# Altium integrated library NSC MiscPower.IntLib: 1417 symbols (part 6 of 39)
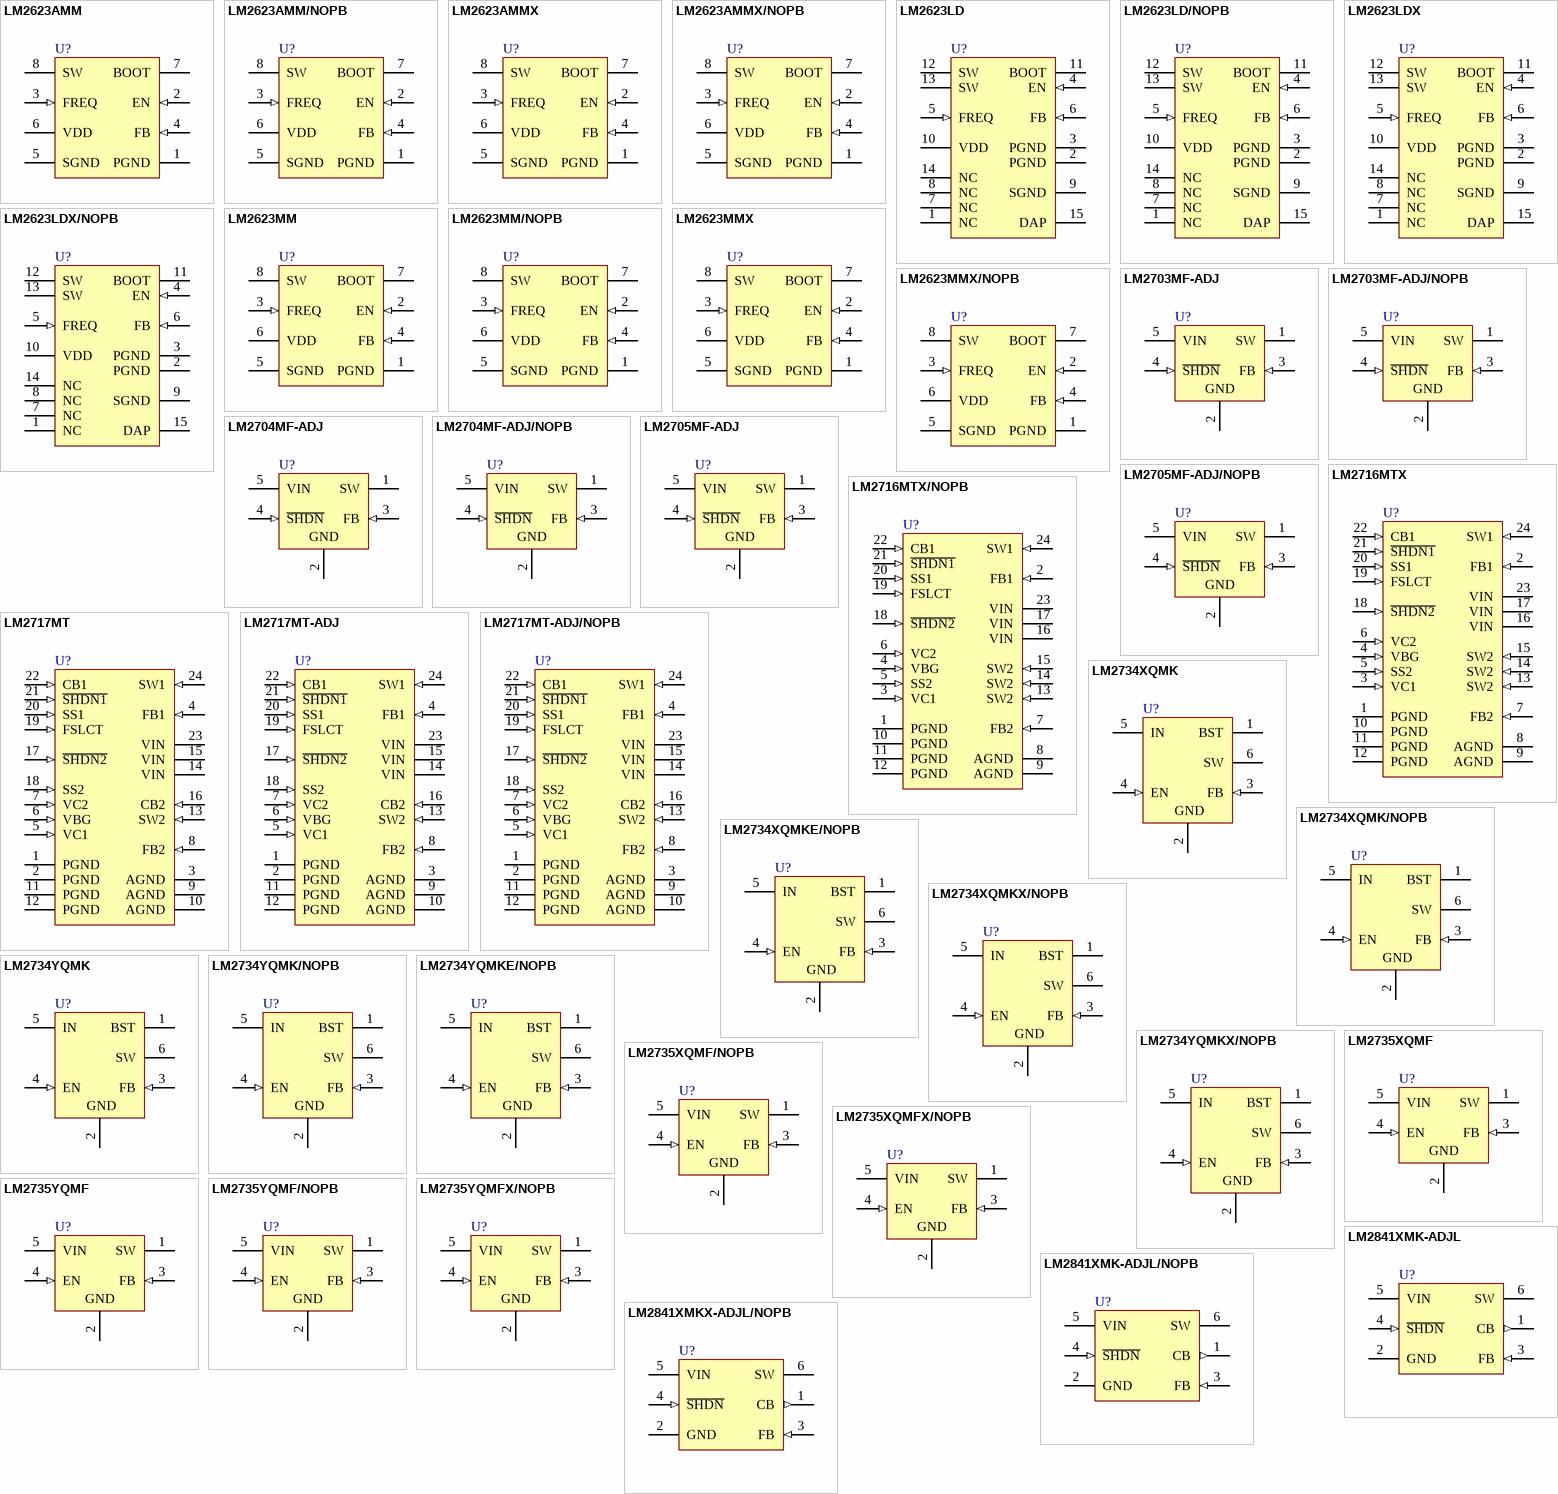
[diagram p56: symbols LM2623AMM to LM2841XMKX-ADJL/NOPB]

## LM2717MT-ADJ/NOPB
designator U?
Dual Step-Down DC/DC Converter, 24-pin TSSOP, Pb-Free; PartNumber: LM2717MT-ADJ/NOPB; Manufacturer: National Semiconductor; PackageTopMarking: NSUZXYTTE#*LM2717*MT-ADJ; PowerWise: N; CompType: MiscPower; Published: 1-Mar-2010; DatasheetVersion: Mar-2008; PackageVersion: revE, Mar-2003; PackageReference: MTC24; Publisher: Altium Limited; PackageDescription: Molded TSSOP, Jedec, 7.8 x 4.4 x 0.9mm Body, 24 Lead, 0.65mm Pitch; Supplier 1: Digi-Key; Supplier Part Number 1: LM2717MT-ADJ-ND; Supplier 2: Farnell; Supplier Part Number 2: 1654569; RoHS: Y; PinCount: 24; Code_JEDEC: MO-153-AD; ComponentLink1Description: LM2717 Datasheet; ComponentLink1URL: http://www.national.com/ds/LM/LM2717-ADJ.pdf; ComponentLink2Description: LM2717 Web Page; ComponentLink2URL: http://www.national.com/pf/LM/LM2717.html; ComponentLink3Description: MTC24 Package Page; ComponentLink3URL: http://www.national.com/packaging/folders/mtc24.html
footprint MTC24_N (TSOP, 24-Leads, Body 7.8x4.4mm, Pitch 0.65mm, IPC Medium Density)
footprint MTC24_L (TSOP, 24-Leads, Body 7.8x4.4mm, Pitch 0.65mm, IPC High Density)
footprint MTC24_M (TSOP, 24-Leads, Body 7.8x4.4mm, Pitch 0.65mm, IPC Low Density)
pins: 1 PGND (power) "Power ground. AGND and PGND pins must be connected together directly at the part.", 2 PGND (power) "Power ground. AGND and PGND pins must be connected together directly at the part.", 3 AGND (power) "Analog ground. AGND and PGND pins must be connected together directly at the part.", 4 FB1 (in) "Fixed buck output voltage feedback input.", 5 VC1 (in) "Fixed buck compensation network connection. Connected to the output of the voltage error amplifier.", 6 VBG (in) "Bandgap connection.", 7 VC2 (in) "Adjustable buck compensation network connection.", 8 FB2 (in) "Adjustable buck output voltage feedback input.", 9 AGND (power) "Analog ground. AGND and PGND pins must be connected together directly at the part.", 10 AGND (power) "Analog ground. AGND and PGND pins must be connected together directly at the part.", 11 PGND (power) "Power ground. AGND and PGND pins must be connected together directly at the part.", 12 PGND (power) "Power ground. AGND and PGND pins must be connected together directly at the part.", 13 SW2 (in) "Adjustable buck power switch input.", 14 VIN (power) "Analog power input.", 15 VIN (power) "Analog power input.", 16 CB2 (in) "Adjustable buck converter bootstrap capacitor connection.", 17 ~{SHDN2} (in) "Shutdown pin for adjustable buck converter. Active low.", 18 SS2 (in) "Adjustable buck soft start pin.", 19 FSLCT (in) "Switching frequency select input.", 20 SS1 (in) "Fixed buck soft start pin.", 21 ~{SHDN1} (in) "Shutdown pin for fixed buck converter. Active low.", 22 CB1 (in) "Fixed buck converter bootstrap capacitor connection.", 23 VIN (power) "Analog power input.", 24 SW1 (in) "Fixed buck power switch input. Switch connected between VIN pins and SW1 pin."

## LM2734XQMK
designator U?
1A Load Step-Down DC-DC Regulator, 6-pin Tiny SOT23; PartNumber: LM2734XQMK; Manufacturer: National Semiconductor; PackageTopMarking: SUKB*XTT; PowerWise: N; CompType: MiscPower; Published: 4-Dec-2008; DatasheetVersion: Apr-2009; PackageVersion: revE, Nov-2008; PackageReference: MK06A; Publisher: Altium Limited; PackageDescription: Molded TSOT, 2.97 x 1.65 x 0.87mm Body, 6 Lead, 0.95mm Pitch; Supplier 1: Farnell; Supplier Part Number 1: 1663027; RoHS: Y; PinCount: 6; Code_JEDEC: MO-193-AA; Code_IPC: SOT26A-6; ComponentLink1Description: LM2734 Datasheet; ComponentLink1URL: http://www.national.com/ds/LM/LM2734.pdf; ComponentLink2Description: LM2734 Web Page; ComponentLink2URL: http://www.national.com/pf/LM/LM2734.html; ComponentLink3Description: MK06A Package Page; ComponentLink3URL: http://www.national.com/packaging/folders/mk06a.html
footprint MK06A_N (SOT23, 6-Leads, Body 3.0x1.7mm, Pitch 0.95mm, Lead Span 2.9mm, IPC Medium Density)
footprint MK06A_L (SOT23, 6-Leads, Body 3.0x1.7mm, Pitch 0.95mm, Lead Span 2.9mm, IPC High Density)
footprint MK06A_M (SOT23, 6-Leads, Body 3.0x1.7mm, Pitch 0.95mm, Lead Span 2.9mm, IPC Low Density)
pins: 1 BST, 2 GND (power), 3 FB (in), 4 EN (in), 5 IN (power), 6 SW (power)

## LM2734XQMK/NOPB
designator U?
1A Load Step-Down DC-DC Regulator, 6-pin Tiny SOT23, Pb-Free; PartNumber: LM2734XQMK/NOPB; Manufacturer: National Semiconductor; PackageTopMarking: SUKB*XTT; PowerWise: N; CompType: MiscPower; Published: 1-Mar-2010; DatasheetVersion: Apr-2009; PackageVersion: revE, Nov-2008; PackageReference: MK06A; Publisher: Altium Limited; PackageDescription: Molded TSOT, 2.97 x 1.65 x 0.87mm Body, 6 Lead, 0.95mm Pitch; Supplier 1: Digi-Key; Supplier Part Number 1: LM2734XQMK-ND; RoHS: Y; PinCount: 6; Code_JEDEC: MO-193-AA; Code_IPC: SOT26A-6; ComponentLink1Description: LM2734 Datasheet; ComponentLink1URL: http://www.national.com/ds/LM/LM2734.pdf; ComponentLink2Description: LM2734 Web Page; ComponentLink2URL: http://www.national.com/pf/LM/LM2734.html; ComponentLink3Description: MK06A Package Page; ComponentLink3URL: http://www.national.com/packaging/folders/mk06a.html
footprint MK06A_N (SOT23, 6-Leads, Body 3.0x1.7mm, Pitch 0.95mm, Lead Span 2.9mm, IPC Medium Density)
footprint MK06A_L (SOT23, 6-Leads, Body 3.0x1.7mm, Pitch 0.95mm, Lead Span 2.9mm, IPC High Density)
footprint MK06A_M (SOT23, 6-Leads, Body 3.0x1.7mm, Pitch 0.95mm, Lead Span 2.9mm, IPC Low Density)
pins: 1 BST, 2 GND (power), 3 FB (in), 4 EN (in), 5 IN (power), 6 SW (power)

## LM2734XQMKE/NOPB
designator U?
1A Load Step-Down DC-DC Regulator, 6-pin Tiny SOT23, Pb-Free; PartNumber: LM2734XQMKE/NOPB; Manufacturer: National Semiconductor; PackageTopMarking: SUKB*XTT; PowerWise: N; CompType: MiscPower; Published: 1-Mar-2010; DatasheetVersion: Apr-2009; PackageVersion: revE, Nov-2008; PackageReference: MK06A; Publisher: Altium Limited; PackageDescription: Molded TSOT, 2.97 x 1.65 x 0.87mm Body, 6 Lead, 0.95mm Pitch; Supplier 1: Digi-Key; Supplier Part Number 1: LM2734XQMKETR-ND; Supplier 2: Digi-Key; Supplier Part Number 2: LM2734XQMKECT-ND; Supplier 3: Digi-Key; Supplier Part Number 3: LM2734XQMKEDKR-ND; RoHS: Y; PinCount: 6; Code_JEDEC: MO-193-AA; Code_IPC: SOT26A-6; ComponentLink1Description: LM2734 Datasheet; ComponentLink1URL: http://www.national.com/ds/LM/LM2734.pdf; ComponentLink2Description: LM2734 Web Page; ComponentLink2URL: http://www.national.com/pf/LM/LM2734.html; ComponentLink3Description: MK06A Package Page; ComponentLink3URL: http://www.national.com/packaging/folders/mk06a.html
footprint MK06A_N (SOT23, 6-Leads, Body 3.0x1.7mm, Pitch 0.95mm, Lead Span 2.9mm, IPC Medium Density)
footprint MK06A_L (SOT23, 6-Leads, Body 3.0x1.7mm, Pitch 0.95mm, Lead Span 2.9mm, IPC High Density)
footprint MK06A_M (SOT23, 6-Leads, Body 3.0x1.7mm, Pitch 0.95mm, Lead Span 2.9mm, IPC Low Density)
pins: 1 BST, 2 GND (power), 3 FB (in), 4 EN (in), 5 IN (power), 6 SW (power)

## LM2734XQMKX/NOPB
designator U?
1A Load Step-Down DC-DC Regulator, 6-pin Tiny SOT23, Pb-Free; PartNumber: LM2734XQMKX/NOPB; Manufacturer: National Semiconductor; PackageTopMarking: SUKB*XTT; PowerWise: N; CompType: MiscPower; Published: 1-Mar-2010; DatasheetVersion: Apr-2009; PackageVersion: revE, Nov-2008; PackageReference: MK06A; Publisher: Altium Limited; PackageDescription: Molded TSOT, 2.97 x 1.65 x 0.87mm Body, 6 Lead, 0.95mm Pitch; Supplier 1: Digi-Key; Supplier Part Number 1: LM2734XQMKX-ND; RoHS: Y; PinCount: 6; Code_JEDEC: MO-193-AA; Code_IPC: SOT26A-6; ComponentLink1Description: LM2734 Datasheet; ComponentLink1URL: http://www.national.com/ds/LM/LM2734.pdf; ComponentLink2Description: LM2734 Web Page; ComponentLink2URL: http://www.national.com/pf/LM/LM2734.html; ComponentLink3Description: MK06A Package Page; ComponentLink3URL: http://www.national.com/packaging/folders/mk06a.html
footprint MK06A_N (SOT23, 6-Leads, Body 3.0x1.7mm, Pitch 0.95mm, Lead Span 2.9mm, IPC Medium Density)
footprint MK06A_L (SOT23, 6-Leads, Body 3.0x1.7mm, Pitch 0.95mm, Lead Span 2.9mm, IPC High Density)
footprint MK06A_M (SOT23, 6-Leads, Body 3.0x1.7mm, Pitch 0.95mm, Lead Span 2.9mm, IPC Low Density)
pins: 1 BST, 2 GND (power), 3 FB (in), 4 EN (in), 5 IN (power), 6 SW (power)

## LM2734YQMK
designator U?
1A Load Step-Down DC-DC Regulator, 6-pin Tiny SOT23; PartNumber: LM2734YQMK; Manufacturer: National Semiconductor; PackageTopMarking: SVCB*XTT; PowerWise: N; CompType: MiscPower; Published: 4-Dec-2008; DatasheetVersion: Apr-2009; PackageVersion: revE, Nov-2008; PackageReference: MK06A; Publisher: Altium Limited; PackageDescription: Molded TSOT, 2.97 x 1.65 x 0.87mm Body, 6 Lead, 0.95mm Pitch; Supplier 1: Farnell; Supplier Part Number 1: 1663029; RoHS: Y; PinCount: 6; Code_JEDEC: MO-193-AA; Code_IPC: SOT26A-6; ComponentLink1Description: LM2734 Datasheet; ComponentLink1URL: http://www.national.com/ds/LM/LM2734.pdf; ComponentLink2Description: LM2734 Web Page; ComponentLink2URL: http://www.national.com/pf/LM/LM2734.html; ComponentLink3Description: MK06A Package Page; ComponentLink3URL: http://www.national.com/packaging/folders/mk06a.html
footprint MK06A_N (SOT23, 6-Leads, Body 3.0x1.7mm, Pitch 0.95mm, Lead Span 2.9mm, IPC Medium Density)
footprint MK06A_L (SOT23, 6-Leads, Body 3.0x1.7mm, Pitch 0.95mm, Lead Span 2.9mm, IPC High Density)
footprint MK06A_M (SOT23, 6-Leads, Body 3.0x1.7mm, Pitch 0.95mm, Lead Span 2.9mm, IPC Low Density)
pins: 1 BST, 2 GND (power), 3 FB (in), 4 EN (in), 5 IN (power), 6 SW (power)

## LM2734YQMK/NOPB
designator U?
1A Load Step-Down DC-DC Regulator, 6-pin Tiny SOT23, Pb-Free; PartNumber: LM2734YQMK/NOPB; Manufacturer: National Semiconductor; PackageTopMarking: SVCB*XTT; PowerWise: N; CompType: MiscPower; Published: 1-Mar-2010; DatasheetVersion: Apr-2009; PackageVersion: revE, Nov-2008; PackageReference: MK06A; Publisher: Altium Limited; PackageDescription: Molded TSOT, 2.97 x 1.65 x 0.87mm Body, 6 Lead, 0.95mm Pitch; Supplier 1: Digi-Key; Supplier Part Number 1: LM2734YQMK-ND; RoHS: Y; PinCount: 6; Code_JEDEC: MO-193-AA; Code_IPC: SOT26A-6; ComponentLink1Description: LM2734 Datasheet; ComponentLink1URL: http://www.national.com/ds/LM/LM2734.pdf; ComponentLink2Description: LM2734 Web Page; ComponentLink2URL: http://www.national.com/pf/LM/LM2734.html; ComponentLink3Description: MK06A Package Page; ComponentLink3URL: http://www.national.com/packaging/folders/mk06a.html
footprint MK06A_N (SOT23, 6-Leads, Body 3.0x1.7mm, Pitch 0.95mm, Lead Span 2.9mm, IPC Medium Density)
footprint MK06A_L (SOT23, 6-Leads, Body 3.0x1.7mm, Pitch 0.95mm, Lead Span 2.9mm, IPC High Density)
footprint MK06A_M (SOT23, 6-Leads, Body 3.0x1.7mm, Pitch 0.95mm, Lead Span 2.9mm, IPC Low Density)
pins: 1 BST, 2 GND (power), 3 FB (in), 4 EN (in), 5 IN (power), 6 SW (power)

## LM2734YQMKE/NOPB
designator U?
1A Load Step-Down DC-DC Regulator, 6-pin Tiny SOT23, Pb-Free; PartNumber: LM2734YQMKE/NOPB; Manufacturer: National Semiconductor; PackageTopMarking: SVCB*XTT; PowerWise: N; CompType: MiscPower; Published: 1-Mar-2010; DatasheetVersion: Apr-2009; PackageVersion: revE, Nov-2008; PackageReference: MK06A; Publisher: Altium Limited; PackageDescription: Molded TSOT, 2.97 x 1.65 x 0.87mm Body, 6 Lead, 0.95mm Pitch; Supplier 1: Digi-Key; Supplier Part Number 1: LM2734YQMKETR-ND; Supplier 2: Digi-Key; Supplier Part Number 2: LM2734YQMKECT-ND; Supplier 3: Digi-Key; Supplier Part Number 3: LM2734YQMKEDKR-ND; RoHS: Y; PinCount: 6; Code_JEDEC: MO-193-AA; Code_IPC: SOT26A-6; ComponentLink1Description: LM2734 Datasheet; ComponentLink1URL: http://www.national.com/ds/LM/LM2734.pdf; ComponentLink2Description: LM2734 Web Page; ComponentLink2URL: http://www.national.com/pf/LM/LM2734.html; ComponentLink3Description: MK06A Package Page; ComponentLink3URL: http://www.national.com/packaging/folders/mk06a.html
footprint MK06A_N (SOT23, 6-Leads, Body 3.0x1.7mm, Pitch 0.95mm, Lead Span 2.9mm, IPC Medium Density)
footprint MK06A_L (SOT23, 6-Leads, Body 3.0x1.7mm, Pitch 0.95mm, Lead Span 2.9mm, IPC High Density)
footprint MK06A_M (SOT23, 6-Leads, Body 3.0x1.7mm, Pitch 0.95mm, Lead Span 2.9mm, IPC Low Density)
pins: 1 BST, 2 GND (power), 3 FB (in), 4 EN (in), 5 IN (power), 6 SW (power)

## LM2734YQMKX/NOPB
designator U?
1A Load Step-Down DC-DC Regulator, 6-pin Tiny SOT23, Pb-Free; PartNumber: LM2734YQMKX/NOPB; Manufacturer: National Semiconductor; PackageTopMarking: SVCB*XTT; PowerWise: N; CompType: MiscPower; Published: 1-Mar-2010; DatasheetVersion: Apr-2009; PackageVersion: revE, Nov-2008; PackageReference: MK06A; Publisher: Altium Limited; PackageDescription: Molded TSOT, 2.97 x 1.65 x 0.87mm Body, 6 Lead, 0.95mm Pitch; Supplier 1: Digi-Key; Supplier Part Number 1: LM2734YQMKX-ND; RoHS: Y; PinCount: 6; Code_JEDEC: MO-193-AA; Code_IPC: SOT26A-6; ComponentLink1Description: LM2734 Datasheet; ComponentLink1URL: http://www.national.com/ds/LM/LM2734.pdf; ComponentLink2Description: LM2734 Web Page; ComponentLink2URL: http://www.national.com/pf/LM/LM2734.html; ComponentLink3Description: MK06A Package Page; ComponentLink3URL: http://www.national.com/packaging/folders/mk06a.html
footprint MK06A_N (SOT23, 6-Leads, Body 3.0x1.7mm, Pitch 0.95mm, Lead Span 2.9mm, IPC Medium Density)
footprint MK06A_L (SOT23, 6-Leads, Body 3.0x1.7mm, Pitch 0.95mm, Lead Span 2.9mm, IPC High Density)
footprint MK06A_M (SOT23, 6-Leads, Body 3.0x1.7mm, Pitch 0.95mm, Lead Span 2.9mm, IPC Low Density)
pins: 1 BST, 2 GND (power), 3 FB (in), 4 EN (in), 5 IN (power), 6 SW (power)

## LM2735XQMF
designator U?
520kHz/1.6MHz - Space-Efficient Boost and SEPIC DC-DC Regulator, 5-pin SOT-23; PartNumber: LM2735XQMF; Manufacturer: National Semiconductor; PackageTopMarking: SVDB*XTT; PowerWise: N; CompType: MiscPower; Published: 29-May-2009; DatasheetVersion: Feb-2009; PackageVersion: revD, Aug-2008; PackageReference: MF05A; Publisher: Altium Limited; PackageDescription: Molded SOT-23, .115 x .063 x .040 in Body, 5 Lead, .0375 in Pitch; Supplier 1: Farnell; Supplier Part Number 1: 1667425; RoHS: Y; PinCount: 5; ComponentLink1Description: LM2735 Datasheet; ComponentLink1URL: http://www.national.com/ds/LM/LM2735.pdf; ComponentLink2Description: LM2735 Web Page; ComponentLink2URL: http://www.national.com/pf/LM/LM2735.html; ComponentLink3Description: MF05A Package Page; ComponentLink3URL: http://www.national.com/packaging/folders/mf05a.html
footprint MF05A_N (SOT23, 5-Leads, Body 2.9x1.6mm, Pitch 0.95mm, Lead Span 2.8mm, IPC Medium Density)
footprint MF05A_L (SOT23, 5-Leads, Body 2.9x1.6mm, Pitch 0.95mm, Lead Span 2.8mm, IPC High Density)
footprint MF05A_M (SOT23, 5-Leads, Body 2.9x1.6mm, Pitch 0.95mm, Lead Span 2.8mm, IPC Low Density)
pins: 1 SW (power), 2 GND (power), 3 FB (in), 4 EN (in), 5 VIN (power)

## LM2735XQMF/NOPB
designator U?
520kHz/1.6MHz - Space-Efficient Boost and SEPIC DC-DC Regulator, 5-pin SOT-23, Pb-Free; PartNumber: LM2735XQMF/NOPB; Manufacturer: National Semiconductor; PackageTopMarking: SVDB*XTT; PowerWise: N; CompType: MiscPower; Published: 1-Mar-2010; DatasheetVersion: Feb-2009; PackageVersion: revD, Aug-2008; PackageReference: MF05A; Publisher: Altium Limited; PackageDescription: Molded SOT-23, .115 x .063 x .040 in Body, 5 Lead, .0375 in Pitch; Supplier 1: Digi-Key; Supplier Part Number 1: LM2735XQMFTR-ND; Supplier 2: Digi-Key; Supplier Part Number 2: LM2735XQMFCT-ND; Supplier 3: Digi-Key; Supplier Part Number 3: LM2735XQMFDKR-ND; RoHS: Y; PinCount: 5; ComponentLink1Description: LM2735 Datasheet; ComponentLink1URL: http://www.national.com/ds/LM/LM2735.pdf; ComponentLink2Description: LM2735 Web Page; ComponentLink2URL: http://www.national.com/pf/LM/LM2735.html; ComponentLink3Description: MF05A Package Page; ComponentLink3URL: http://www.national.com/packaging/folders/mf05a.html
footprint MF05A_N (SOT23, 5-Leads, Body 2.9x1.6mm, Pitch 0.95mm, Lead Span 2.8mm, IPC Medium Density)
footprint MF05A_L (SOT23, 5-Leads, Body 2.9x1.6mm, Pitch 0.95mm, Lead Span 2.8mm, IPC High Density)
footprint MF05A_M (SOT23, 5-Leads, Body 2.9x1.6mm, Pitch 0.95mm, Lead Span 2.8mm, IPC Low Density)
pins: 1 SW (power), 2 GND (power), 3 FB (in), 4 EN (in), 5 VIN (power)

## LM2735XQMFX/NOPB
designator U?
520kHz/1.6MHz - Space-Efficient Boost and SEPIC DC-DC Regulator, 5-pin SOT-23, Pb-Free; PartNumber: LM2735XQMFX/NOPB; Manufacturer: National Semiconductor; PackageTopMarking: SVDB*XTT; PowerWise: N; CompType: MiscPower; Published: 1-Mar-2010; DatasheetVersion: Feb-2009; PackageVersion: revD, Aug-2008; PackageReference: MF05A; Publisher: Altium Limited; PackageDescription: Molded SOT-23, .115 x .063 x .040 in Body, 5 Lead, .0375 in Pitch; Supplier 1: Digi-Key; Supplier Part Number 1: LM2735XQMFX-ND; RoHS: Y; PinCount: 5; ComponentLink1Description: LM2735 Datasheet; ComponentLink1URL: http://www.national.com/ds/LM/LM2735.pdf; ComponentLink2Description: LM2735 Web Page; ComponentLink2URL: http://www.national.com/pf/LM/LM2735.html; ComponentLink3Description: MF05A Package Page; ComponentLink3URL: http://www.national.com/packaging/folders/mf05a.html
footprint MF05A_N (SOT23, 5-Leads, Body 2.9x1.6mm, Pitch 0.95mm, Lead Span 2.8mm, IPC Medium Density)
footprint MF05A_L (SOT23, 5-Leads, Body 2.9x1.6mm, Pitch 0.95mm, Lead Span 2.8mm, IPC High Density)
footprint MF05A_M (SOT23, 5-Leads, Body 2.9x1.6mm, Pitch 0.95mm, Lead Span 2.8mm, IPC Low Density)
pins: 1 SW (power), 2 GND (power), 3 FB (in), 4 EN (in), 5 VIN (power)

## LM2735YQMF
designator U?
520kHz/1.6MHz - Space-Efficient Boost and SEPIC DC-DC Regulator, 5-pin SOT-23; PartNumber: LM2735YQMF; Manufacturer: National Semiconductor; PackageTopMarking: SXUB*XTT; PowerWise: N; CompType: MiscPower; Published: 29-May-2009; DatasheetVersion: Feb-2009; PackageVersion: revD, Aug-2008; PackageReference: MF05A; Publisher: Altium Limited; PackageDescription: Molded SOT-23, .115 x .063 x .040 in Body, 5 Lead, .0375 in Pitch; Supplier 1: Farnell; Supplier Part Number 1: 1699381; RoHS: Y; PinCount: 5; ComponentLink1Description: LM2735 Datasheet; ComponentLink1URL: http://www.national.com/ds/LM/LM2735.pdf; ComponentLink2Description: LM2735 Web Page; ComponentLink2URL: http://www.national.com/pf/LM/LM2735.html; ComponentLink3Description: MF05A Package Page; ComponentLink3URL: http://www.national.com/packaging/folders/mf05a.html
footprint MF05A_N (SOT23, 5-Leads, Body 2.9x1.6mm, Pitch 0.95mm, Lead Span 2.8mm, IPC Medium Density)
footprint MF05A_L (SOT23, 5-Leads, Body 2.9x1.6mm, Pitch 0.95mm, Lead Span 2.8mm, IPC High Density)
footprint MF05A_M (SOT23, 5-Leads, Body 2.9x1.6mm, Pitch 0.95mm, Lead Span 2.8mm, IPC Low Density)
pins: 1 SW (power), 2 GND (power), 3 FB (in), 4 EN (in), 5 VIN (power)

## LM2735YQMF/NOPB
designator U?
520kHz/1.6MHz - Space-Efficient Boost and SEPIC DC-DC Regulator, 5-pin SOT-23, Pb-Free; PartNumber: LM2735YQMF/NOPB; Manufacturer: National Semiconductor; PackageTopMarking: SXUB*XTT; PowerWise: N; CompType: MiscPower; Published: 1-Mar-2010; DatasheetVersion: Feb-2009; PackageVersion: revD, Aug-2008; PackageReference: MF05A; Publisher: Altium Limited; PackageDescription: Molded SOT-23, .115 x .063 x .040 in Body, 5 Lead, .0375 in Pitch; Supplier 1: Digi-Key; Supplier Part Number 1: LM2735YQMFTR-ND; Supplier 2: Digi-Key; Supplier Part Number 2: LM2735YQMFCT-ND; Supplier 3: Digi-Key; Supplier Part Number 3: LM2735YQMFDKR-ND; RoHS: Y; PinCount: 5; ComponentLink1Description: LM2735 Datasheet; ComponentLink1URL: http://www.national.com/ds/LM/LM2735.pdf; ComponentLink2Description: LM2735 Web Page; ComponentLink2URL: http://www.national.com/pf/LM/LM2735.html; ComponentLink3Description: MF05A Package Page; ComponentLink3URL: http://www.national.com/packaging/folders/mf05a.html
footprint MF05A_N (SOT23, 5-Leads, Body 2.9x1.6mm, Pitch 0.95mm, Lead Span 2.8mm, IPC Medium Density)
footprint MF05A_L (SOT23, 5-Leads, Body 2.9x1.6mm, Pitch 0.95mm, Lead Span 2.8mm, IPC High Density)
footprint MF05A_M (SOT23, 5-Leads, Body 2.9x1.6mm, Pitch 0.95mm, Lead Span 2.8mm, IPC Low Density)
pins: 1 SW (power), 2 GND (power), 3 FB (in), 4 EN (in), 5 VIN (power)

## LM2735YQMFX/NOPB
designator U?
520kHz/1.6MHz - Space-Efficient Boost and SEPIC DC-DC Regulator, 5-pin SOT-23, Pb-Free; PartNumber: LM2735YQMFX/NOPB; Manufacturer: National Semiconductor; PackageTopMarking: SXUB*XTT; PowerWise: N; CompType: MiscPower; Published: 1-Mar-2010; DatasheetVersion: Feb-2009; PackageVersion: revD, Aug-2008; PackageReference: MF05A; Publisher: Altium Limited; PackageDescription: Molded SOT-23, .115 x .063 x .040 in Body, 5 Lead, .0375 in Pitch; Supplier 1: Digi-Key; Supplier Part Number 1: LM2735YQMFX-ND; RoHS: Y; PinCount: 5; ComponentLink1Description: LM2735 Datasheet; ComponentLink1URL: http://www.national.com/ds/LM/LM2735.pdf; ComponentLink2Description: LM2735 Web Page; ComponentLink2URL: http://www.national.com/pf/LM/LM2735.html; ComponentLink3Description: MF05A Package Page; ComponentLink3URL: http://www.national.com/packaging/folders/mf05a.html
footprint MF05A_N (SOT23, 5-Leads, Body 2.9x1.6mm, Pitch 0.95mm, Lead Span 2.8mm, IPC Medium Density)
footprint MF05A_L (SOT23, 5-Leads, Body 2.9x1.6mm, Pitch 0.95mm, Lead Span 2.8mm, IPC High Density)
footprint MF05A_M (SOT23, 5-Leads, Body 2.9x1.6mm, Pitch 0.95mm, Lead Span 2.8mm, IPC Low Density)
pins: 1 SW (power), 2 GND (power), 3 FB (in), 4 EN (in), 5 VIN (power)

## LM2841XMK-ADJL
designator U?
300 mA/600 mA up to 42V Input Step-Down DC/DC Regulator, 6-pin Tiny SOT23; PartNumber: LM2841XMK-ADJL; Manufacturer: National Semiconductor; PackageTopMarking: STFB*XTT; PowerWise: N; CompType: MiscPower; Published: 29-May-2009; DatasheetVersion: Sep-2009; PackageVersion: revE, Nov-2008; PackageReference: MK06A; Publisher: Altium Limited; PackageDescription: Molded TSOT, 2.97 x 1.65 x 0.87mm Body, 6 Lead, 0.95mm Pitch; RoHS: Y; PinCount: 6; Code_JEDEC: MO-193-AA; Code_IPC: SOT26A-6; ComponentLink1Description: LM2841 Datasheet; ComponentLink1URL: http://www.national.com/ds/LM/LM2841.pdf; ComponentLink2Description: LM2841 Web Page; ComponentLink2URL: http://www.national.com/pf/LM/LM2841.html; ComponentLink3Description: MK06A Package Page; ComponentLink3URL: http://www.national.com/packaging/folders/mk06a.html
footprint MK06A_N (SOT23, 6-Leads, Body 3.0x1.7mm, Pitch 0.95mm, Lead Span 2.9mm, IPC Medium Density)
footprint MK06A_L (SOT23, 6-Leads, Body 3.0x1.7mm, Pitch 0.95mm, Lead Span 2.9mm, IPC High Density)
footprint MK06A_M (SOT23, 6-Leads, Body 3.0x1.7mm, Pitch 0.95mm, Lead Span 2.9mm, IPC Low Density)
pins: 1 CB (out), 2 GND (power), 3 FB (in), 4 ~{SHDN} (in), 5 VIN (power), 6 SW (power)

## LM2841XMK-ADJL/NOPB
designator U?
300 mA/600 mA up to 42V Input Step-Down DC/DC Regulator in Thin 6-pin Tiny SOT23, Pb-Free; PartNumber: LM2841XMK-ADJL/NOPB; Manufacturer: National Semiconductor; PackageTopMarking: STFB*XTT; PowerWise: N; CompType: MiscPower; Published: 1-Mar-2010; DatasheetVersion: Sep-2009; PackageVersion: revE, Nov-2008; PackageReference: MK06A; Publisher: Altium Limited; PackageDescription: Molded TSOT, 2.97 x 1.65 x 0.87mm Body, 6 Lead, 0.95mm Pitch; Supplier 1: Digi-Key; Supplier Part Number 1: LM2841XMK-ADJLTR-ND; Supplier 2: Digi-Key; Supplier Part Number 2: LM2841XMK-ADJLCT-ND; Supplier 3: Digi-Key; Supplier Part Number 3: LM2841XMK-ADJLDKR-ND; Supplier 4: Farnell; Supplier Part Number 4: 1714819; RoHS: Y; PinCount: 6; Code_JEDEC: MO-193-AA; Code_IPC: SOT26A-6; ComponentLink1Description: LM2841 Datasheet; ComponentLink1URL: http://www.national.com/ds/LM/LM2841.pdf; ComponentLink2Description: LM2841 Web Page; ComponentLink2URL: http://www.national.com/pf/LM/LM2841.html; ComponentLink3Description: MK06A Package Page; ComponentLink3URL: http://www.national.com/packaging/folders/mk06a.html
footprint MK06A_N (SOT23, 6-Leads, Body 3.0x1.7mm, Pitch 0.95mm, Lead Span 2.9mm, IPC Medium Density)
footprint MK06A_L (SOT23, 6-Leads, Body 3.0x1.7mm, Pitch 0.95mm, Lead Span 2.9mm, IPC High Density)
footprint MK06A_M (SOT23, 6-Leads, Body 3.0x1.7mm, Pitch 0.95mm, Lead Span 2.9mm, IPC Low Density)
pins: 1 CB (out), 2 GND (power), 3 FB (in), 4 ~{SHDN} (in), 5 VIN (power), 6 SW (power)

## LM2841XMKX-ADJL/NOPB
designator U?
300 mA/600 mA up to 42V Input Step-Down DC/DC Regulator in Thin 6-pin Tiny SOT23, Pb-Free; PartNumber: LM2841XMKX-ADJL/NOPB; Manufacturer: National Semiconductor; PackageTopMarking: STFB*XTT; PowerWise: N; CompType: MiscPower; Published: 1-Mar-2010; DatasheetVersion: Sep-2009; PackageVersion: revE, Nov-2008; PackageReference: MK06A; Publisher: Altium Limited; PackageDescription: Molded TSOT, 2.97 x 1.65 x 0.87mm Body, 6 Lead, 0.95mm Pitch; Supplier 1: Digi-Key; Supplier Part Number 1: LM2841XMKX-ADJL-ND; RoHS: Y; PinCount: 6; Code_JEDEC: MO-193-AA; Code_IPC: SOT26A-6; ComponentLink1Description: LM2841 Datasheet; ComponentLink1URL: http://www.national.com/ds/LM/LM2841.pdf; ComponentLink2Description: LM2841 Web Page; ComponentLink2URL: http://www.national.com/pf/LM/LM2841.html; ComponentLink3Description: MK06A Package Page; ComponentLink3URL: http://www.national.com/packaging/folders/mk06a.html
footprint MK06A_N (SOT23, 6-Leads, Body 3.0x1.7mm, Pitch 0.95mm, Lead Span 2.9mm, IPC Medium Density)
footprint MK06A_L (SOT23, 6-Leads, Body 3.0x1.7mm, Pitch 0.95mm, Lead Span 2.9mm, IPC High Density)
footprint MK06A_M (SOT23, 6-Leads, Body 3.0x1.7mm, Pitch 0.95mm, Lead Span 2.9mm, IPC Low Density)
pins: 1 CB (out), 2 GND (power), 3 FB (in), 4 ~{SHDN} (in), 5 VIN (power), 6 SW (power)

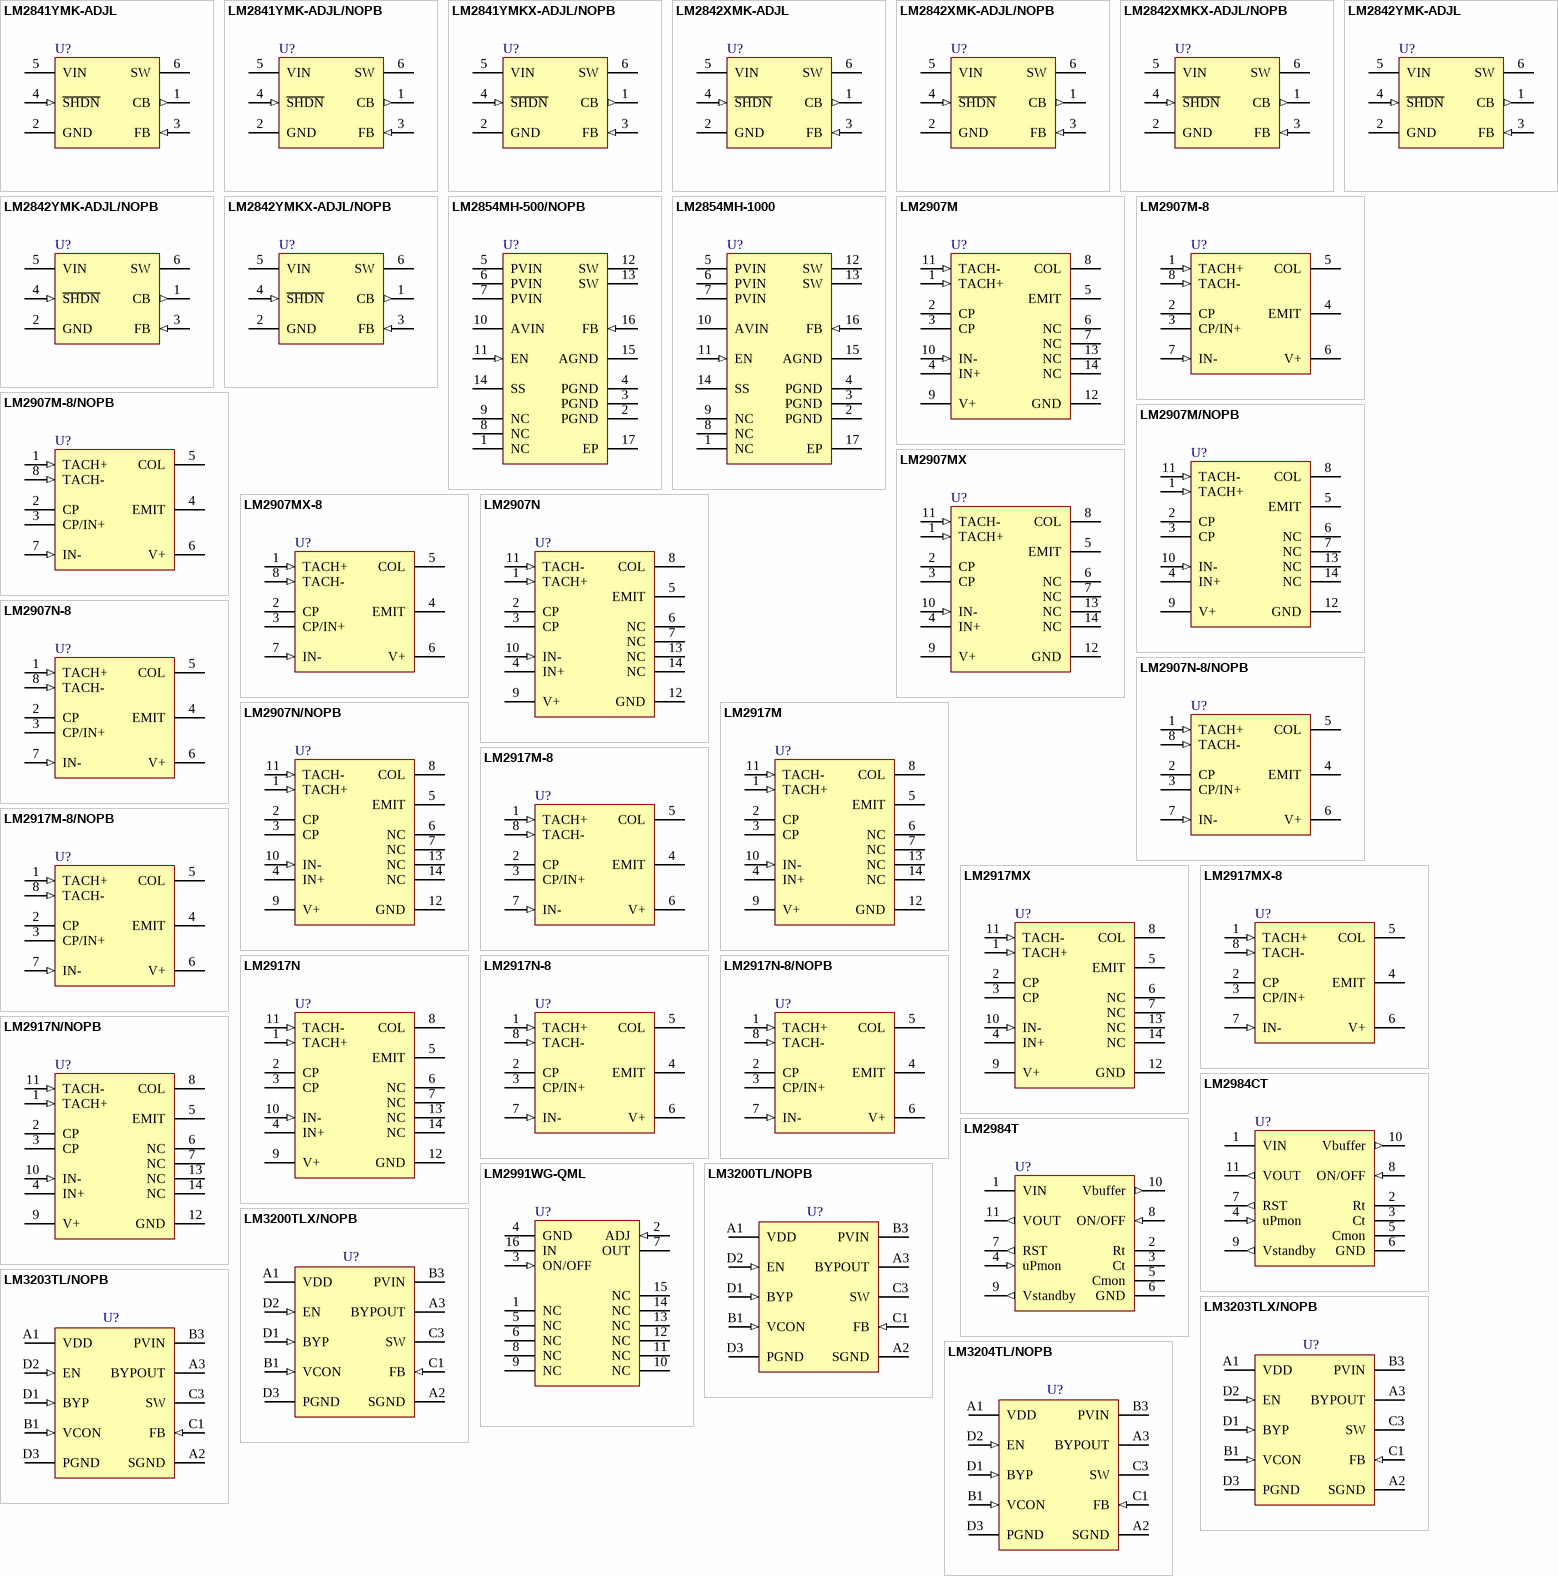
[diagram p7: symbols LM2841YMK-ADJL to LM3204TL/NOPB]

## LM2841YMK-ADJL
designator U?
300 mA/600 mA up to 42V Input Step-Down DC/DC Regulator, 6-pin Tiny SOT23; PartNumber: LM2841YMK-ADJL; Manufacturer: National Semiconductor; PackageTopMarking: STTB*XTT; PowerWise: N; CompType: MiscPower; Published: 29-May-2009; DatasheetVersion: Sep-2009; PackageVersion: revE, Nov-2008; PackageReference: MK06A; Publisher: Altium Limited; PackageDescription: Molded TSOT, 2.97 x 1.65 x 0.87mm Body, 6 Lead, 0.95mm Pitch; RoHS: Y; PinCount: 6; Code_JEDEC: MO-193-AA; Code_IPC: SOT26A-6; ComponentLink1Description: LM2841 Datasheet; ComponentLink1URL: http://www.national.com/ds/LM/LM2841.pdf; ComponentLink2Description: LM2841 Web Page; ComponentLink2URL: http://www.national.com/pf/LM/LM2841.html; ComponentLink3Description: MK06A Package Page; ComponentLink3URL: http://www.national.com/packaging/folders/mk06a.html
footprint MK06A_N (SOT23, 6-Leads, Body 3.0x1.7mm, Pitch 0.95mm, Lead Span 2.9mm, IPC Medium Density)
footprint MK06A_L (SOT23, 6-Leads, Body 3.0x1.7mm, Pitch 0.95mm, Lead Span 2.9mm, IPC High Density)
footprint MK06A_M (SOT23, 6-Leads, Body 3.0x1.7mm, Pitch 0.95mm, Lead Span 2.9mm, IPC Low Density)
pins: 1 CB (out), 2 GND (power), 3 FB (in), 4 ~{SHDN} (in), 5 VIN (power), 6 SW (power)

## LM2841YMK-ADJL/NOPB
designator U?
300 mA/600 mA up to 42V Input Step-Down DC/DC Regulator in Thin 6-pin Tiny SOT23, Pb-Free; PartNumber: LM2841YMK-ADJL/NOPB; Manufacturer: National Semiconductor; PackageTopMarking: STTB*XTT; PowerWise: N; CompType: MiscPower; Published: 1-Mar-2010; DatasheetVersion: Sep-2009; PackageVersion: revE, Nov-2008; PackageReference: MK06A; Publisher: Altium Limited; PackageDescription: Molded TSOT, 2.97 x 1.65 x 0.87mm Body, 6 Lead, 0.95mm Pitch; Supplier 1: Digi-Key; Supplier Part Number 1: LM2841YMK-ADJLTR-ND; Supplier 2: Digi-Key; Supplier Part Number 2: LM2841YMK-ADJLCT-ND; Supplier 3: Digi-Key; Supplier Part Number 3: LM2841YMK-ADJLDKR-ND; Supplier 4: Farnell; Supplier Part Number 4: 1714821; RoHS: Y; PinCount: 6; Code_JEDEC: MO-193-AA; Code_IPC: SOT26A-6; ComponentLink1Description: LM2841 Datasheet; ComponentLink1URL: http://www.national.com/ds/LM/LM2841.pdf; ComponentLink2Description: LM2841 Web Page; ComponentLink2URL: http://www.national.com/pf/LM/LM2841.html; ComponentLink3Description: MK06A Package Page; ComponentLink3URL: http://www.national.com/packaging/folders/mk06a.html
footprint MK06A_N (SOT23, 6-Leads, Body 3.0x1.7mm, Pitch 0.95mm, Lead Span 2.9mm, IPC Medium Density)
footprint MK06A_L (SOT23, 6-Leads, Body 3.0x1.7mm, Pitch 0.95mm, Lead Span 2.9mm, IPC High Density)
footprint MK06A_M (SOT23, 6-Leads, Body 3.0x1.7mm, Pitch 0.95mm, Lead Span 2.9mm, IPC Low Density)
pins: 1 CB (out), 2 GND (power), 3 FB (in), 4 ~{SHDN} (in), 5 VIN (power), 6 SW (power)

## LM2841YMKX-ADJL/NOPB
designator U?
300 mA/600 mA up to 42V Input Step-Down DC/DC Regulator in Thin 6-pin Tiny SOT23, Pb-Free; PartNumber: LM2841YMKX-ADJL/NOPB; Manufacturer: National Semiconductor; PackageTopMarking: STTB*XTT; PowerWise: N; CompType: MiscPower; Published: 1-Mar-2010; DatasheetVersion: Sep-2009; PackageVersion: revE, Nov-2008; PackageReference: MK06A; Publisher: Altium Limited; PackageDescription: Molded TSOT, 2.97 x 1.65 x 0.87mm Body, 6 Lead, 0.95mm Pitch; Supplier 1: Digi-Key; Supplier Part Number 1: LM2841YMKX-ADJL-ND; RoHS: Y; PinCount: 6; Code_JEDEC: MO-193-AA; Code_IPC: SOT26A-6; ComponentLink1Description: LM2841 Datasheet; ComponentLink1URL: http://www.national.com/ds/LM/LM2841.pdf; ComponentLink2Description: LM2841 Web Page; ComponentLink2URL: http://www.national.com/pf/LM/LM2841.html; ComponentLink3Description: MK06A Package Page; ComponentLink3URL: http://www.national.com/packaging/folders/mk06a.html
footprint MK06A_N (SOT23, 6-Leads, Body 3.0x1.7mm, Pitch 0.95mm, Lead Span 2.9mm, IPC Medium Density)
footprint MK06A_L (SOT23, 6-Leads, Body 3.0x1.7mm, Pitch 0.95mm, Lead Span 2.9mm, IPC High Density)
footprint MK06A_M (SOT23, 6-Leads, Body 3.0x1.7mm, Pitch 0.95mm, Lead Span 2.9mm, IPC Low Density)
pins: 1 CB (out), 2 GND (power), 3 FB (in), 4 ~{SHDN} (in), 5 VIN (power), 6 SW (power)

## LM2842XMK-ADJL
designator U?
300 mA/600 mA up to 42V Input Step-Down DC/DC Regulator, 6-pin Tiny SOT23; PartNumber: LM2842XMK-ADJL; Manufacturer: National Semiconductor; PackageTopMarking: STVB*XTT; PowerWise: N; CompType: MiscPower; Published: 29-May-2009; DatasheetVersion: Sep-2009; PackageVersion: revE, Nov-2008; PackageReference: MK06A; Publisher: Altium Limited; PackageDescription: Molded TSOT, 2.97 x 1.65 x 0.87mm Body, 6 Lead, 0.95mm Pitch; RoHS: Y; PinCount: 6; Code_JEDEC: MO-193-AA; Code_IPC: SOT26A-6; ComponentLink1Description: LM2841 Datasheet; ComponentLink1URL: http://www.national.com/ds/LM/LM2841.pdf; ComponentLink2Description: LM2842 Web Page; ComponentLink2URL: http://www.national.com/pf/LM/LM2842.html; ComponentLink3Description: MK06A Package Page; ComponentLink3URL: http://www.national.com/packaging/folders/mk06a.html
footprint MK06A_N (SOT23, 6-Leads, Body 3.0x1.7mm, Pitch 0.95mm, Lead Span 2.9mm, IPC Medium Density)
footprint MK06A_L (SOT23, 6-Leads, Body 3.0x1.7mm, Pitch 0.95mm, Lead Span 2.9mm, IPC High Density)
footprint MK06A_M (SOT23, 6-Leads, Body 3.0x1.7mm, Pitch 0.95mm, Lead Span 2.9mm, IPC Low Density)
pins: 1 CB (out), 2 GND (power), 3 FB (in), 4 ~{SHDN} (in), 5 VIN (power), 6 SW (power)

## LM2842XMK-ADJL/NOPB
designator U?
300 mA/600 mA up to 42V Input Step-Down DC/DC Regulator in Thin 6-pin Tiny SOT23, Pb-Free; PartNumber: LM2842XMK-ADJL/NOPB; Manufacturer: National Semiconductor; PackageTopMarking: STVB*XTT; PowerWise: N; CompType: MiscPower; Published: 1-Mar-2010; DatasheetVersion: Mar-2009; PackageVersion: revE, Nov-2008; PackageReference: MK06A; Publisher: Altium Limited; PackageDescription: Molded TSOT, 2.97 x 1.65 x 0.87mm Body, 6 Lead, 0.95mm Pitch; Supplier 1: Digi-Key; Supplier Part Number 1: LM2842XMK-ADJLTR-ND; Supplier 2: Digi-Key; Supplier Part Number 2: LM2842XMK-ADJLCT-ND; Supplier 3: Digi-Key; Supplier Part Number 3: LM2842XMK-ADJLDKR-ND; Supplier 4: Farnell; Supplier Part Number 4: 1714822; RoHS: Y; PinCount: 6; Code_JEDEC: MO-193-AA; Code_IPC: SOT26A-6; ComponentLink1Description: LM2842 Datasheet; ComponentLink1URL: http://www.national.com/ds/LM/LM2842.pdf; ComponentLink2Description: LM2842 Web Page; ComponentLink2URL: http://www.national.com/pf/LM/LM2842.html; ComponentLink3Description: MK06A Package Page; ComponentLink3URL: http://www.national.com/packaging/folders/mk06a.html
footprint MK06A_N (SOT23, 6-Leads, Body 3.0x1.7mm, Pitch 0.95mm, Lead Span 2.9mm, IPC Medium Density)
footprint MK06A_L (SOT23, 6-Leads, Body 3.0x1.7mm, Pitch 0.95mm, Lead Span 2.9mm, IPC High Density)
footprint MK06A_M (SOT23, 6-Leads, Body 3.0x1.7mm, Pitch 0.95mm, Lead Span 2.9mm, IPC Low Density)
pins: 1 CB (out), 2 GND (power), 3 FB (in), 4 ~{SHDN} (in), 5 VIN (power), 6 SW (power)

## LM2842XMKX-ADJL/NOPB
designator U?
300 mA/600 mA up to 42V Input Step-Down DC/DC Regulator in Thin 6-pin Tiny SOT23, Pb-Free; PartNumber: LM2842XMKX-ADJL/NOPB; Manufacturer: National Semiconductor; PackageTopMarking: STVB*XTT; PowerWise: N; CompType: MiscPower; Published: 1-Mar-2010; DatasheetVersion: Mar-2009; PackageVersion: revE, Nov-2008; PackageReference: MK06A; Publisher: Altium Limited; PackageDescription: Molded TSOT, 2.97 x 1.65 x 0.87mm Body, 6 Lead, 0.95mm Pitch; Supplier 1: Digi-Key; Supplier Part Number 1: LM2842XMKX-ADJL-ND; RoHS: Y; PinCount: 6; Code_JEDEC: MO-193-AA; Code_IPC: SOT26A-6; ComponentLink1Description: LM2842 Datasheet; ComponentLink1URL: http://www.national.com/ds/LM/LM2842.pdf; ComponentLink2Description: LM2842 Web Page; ComponentLink2URL: http://www.national.com/pf/LM/LM2842.html; ComponentLink3Description: MK06A Package Page; ComponentLink3URL: http://www.national.com/packaging/folders/mk06a.html
footprint MK06A_N (SOT23, 6-Leads, Body 3.0x1.7mm, Pitch 0.95mm, Lead Span 2.9mm, IPC Medium Density)
footprint MK06A_L (SOT23, 6-Leads, Body 3.0x1.7mm, Pitch 0.95mm, Lead Span 2.9mm, IPC High Density)
footprint MK06A_M (SOT23, 6-Leads, Body 3.0x1.7mm, Pitch 0.95mm, Lead Span 2.9mm, IPC Low Density)
pins: 1 CB (out), 2 GND (power), 3 FB (in), 4 ~{SHDN} (in), 5 VIN (power), 6 SW (power)

## LM2842YMK-ADJL
designator U?
300 mA/600 mA up to 42V Input Step-Down DC/DC Regulator, 6-pin Tiny SOT23; PartNumber: LM2842YMK-ADJL; Manufacturer: National Semiconductor; PackageTopMarking: STXB*XTT; PowerWise: N; CompType: MiscPower; Published: 29-May-2009; DatasheetVersion: Sep-2009; PackageVersion: revE, Nov-2008; PackageReference: MK06A; Publisher: Altium Limited; PackageDescription: Molded TSOT, 2.97 x 1.65 x 0.87mm Body, 6 Lead, 0.95mm Pitch; RoHS: Y; PinCount: 6; Code_JEDEC: MO-193-AA; Code_IPC: SOT26A-6; ComponentLink1Description: LM2841 Datasheet; ComponentLink1URL: http://www.national.com/ds/LM/LM2841.pdf; ComponentLink2Description: LM2842 Web Page; ComponentLink2URL: http://www.national.com/pf/LM/LM2842.html; ComponentLink3Description: MK06A Package Page; ComponentLink3URL: http://www.national.com/packaging/folders/mk06a.html
footprint MK06A_N (SOT23, 6-Leads, Body 3.0x1.7mm, Pitch 0.95mm, Lead Span 2.9mm, IPC Medium Density)
footprint MK06A_L (SOT23, 6-Leads, Body 3.0x1.7mm, Pitch 0.95mm, Lead Span 2.9mm, IPC High Density)
footprint MK06A_M (SOT23, 6-Leads, Body 3.0x1.7mm, Pitch 0.95mm, Lead Span 2.9mm, IPC Low Density)
pins: 1 CB (out), 2 GND (power), 3 FB (in), 4 ~{SHDN} (in), 5 VIN (power), 6 SW (power)

## LM2842YMK-ADJL/NOPB
designator U?
300 mA/600 mA up to 42V Input Step-Down DC/DC Regulator in Thin 6-pin Tiny SOT23, Pb-Free; PartNumber: LM2842YMK-ADJL/NOPB; Manufacturer: National Semiconductor; PackageTopMarking: STXB*XTT; PowerWise: N; CompType: MiscPower; Published: 1-Mar-2010; DatasheetVersion: Mar-2009; PackageVersion: revE, Nov-2008; PackageReference: MK06A; Publisher: Altium Limited; PackageDescription: Molded TSOT, 2.97 x 1.65 x 0.87mm Body, 6 Lead, 0.95mm Pitch; Supplier 1: Digi-Key; Supplier Part Number 1: LM2842YMK-ADJLTR-ND; Supplier 2: Digi-Key; Supplier Part Number 2: LM2842YMK-ADJLCT-ND; Supplier 3: Digi-Key; Supplier Part Number 3: LM2842YMK-ADJLDKR-ND; Supplier 4: Farnell; Supplier Part Number 4: 1714823; RoHS: Y; PinCount: 6; Code_JEDEC: MO-193-AA; Code_IPC: SOT26A-6; ComponentLink1Description: LM2842 Datasheet; ComponentLink1URL: http://www.national.com/ds/LM/LM2842.pdf; ComponentLink2Description: LM2842 Web Page; ComponentLink2URL: http://www.national.com/pf/LM/LM2842.html; ComponentLink3Description: MK06A Package Page; ComponentLink3URL: http://www.national.com/packaging/folders/mk06a.html
footprint MK06A_N (SOT23, 6-Leads, Body 3.0x1.7mm, Pitch 0.95mm, Lead Span 2.9mm, IPC Medium Density)
footprint MK06A_L (SOT23, 6-Leads, Body 3.0x1.7mm, Pitch 0.95mm, Lead Span 2.9mm, IPC High Density)
footprint MK06A_M (SOT23, 6-Leads, Body 3.0x1.7mm, Pitch 0.95mm, Lead Span 2.9mm, IPC Low Density)
pins: 1 CB (out), 2 GND (power), 3 FB (in), 4 ~{SHDN} (in), 5 VIN (power), 6 SW (power)

## LM2842YMKX-ADJL/NOPB
designator U?
300 mA/600 mA up to 42V Input Step-Down DC/DC Regulator in Thin 6-pin Tiny SOT23, Pb-Free; PartNumber: LM2842YMKX-ADJL/NOPB; Manufacturer: National Semiconductor; PackageTopMarking: STXB*XTT; PowerWise: N; CompType: MiscPower; Published: 1-Mar-2010; DatasheetVersion: Mar-2009; PackageVersion: revE, Nov-2008; PackageReference: MK06A; Publisher: Altium Limited; PackageDescription: Molded TSOT, 2.97 x 1.65 x 0.87mm Body, 6 Lead, 0.95mm Pitch; Supplier 1: Digi-Key; Supplier Part Number 1: LM2842YMKX-ADJL-ND; RoHS: Y; PinCount: 6; Code_JEDEC: MO-193-AA; Code_IPC: SOT26A-6; ComponentLink1Description: LM2842 Datasheet; ComponentLink1URL: http://www.national.com/ds/LM/LM2842.pdf; ComponentLink2Description: LM2842 Web Page; ComponentLink2URL: http://www.national.com/pf/LM/LM2842.html; ComponentLink3Description: MK06A Package Page; ComponentLink3URL: http://www.national.com/packaging/folders/mk06a.html
footprint MK06A_N (SOT23, 6-Leads, Body 3.0x1.7mm, Pitch 0.95mm, Lead Span 2.9mm, IPC Medium Density)
footprint MK06A_L (SOT23, 6-Leads, Body 3.0x1.7mm, Pitch 0.95mm, Lead Span 2.9mm, IPC High Density)
footprint MK06A_M (SOT23, 6-Leads, Body 3.0x1.7mm, Pitch 0.95mm, Lead Span 2.9mm, IPC Low Density)
pins: 1 CB (out), 2 GND (power), 3 FB (in), 4 ~{SHDN} (in), 5 VIN (power), 6 SW (power)

## LM2854MH-500/NOPB
designator U?
4A 500 kHz / 1 MHz Synchronous SIMPLE SWITCHER® Buck Regulator, 16-pin TSSOP-EP, Pb-Free; PartNumber: LM2854MH-500/NOPB; Manufacturer: National Semiconductor; PackageTopMarking: NSUZXYTT*LM2854*-500; PowerWise: Y; CompType: MiscPower; Published: 1-Mar-2010; DatasheetVersion: Nov-2008; PackageVersion: revA, Apr-2003; PackageReference: MXA16A; Publisher: Altium Limited; PackageDescription: Molded TSSOP, Jedec, Exposed Pad, 5.0 x 4.4 x 0.9mm Body,16 Lead, 0.65mm Pitch; Supplier 1: Digi-Key; Supplier Part Number 1: LM2854MH-500-ND; RoHS: Y; PinCount: 16; Code_JEDEC: MO-153-ABT; ComponentLink1Description: LM2854 Datasheet; ComponentLink1URL: http://www.national.com/ds/LM/LM2854.pdf; ComponentLink2Description: LM2854 Web Page; ComponentLink2URL: http://www.national.com/pf/LM/LM2854.html; ComponentLink3Description: MXA16A Package Page; ComponentLink3URL: http://www.national.com/packaging/folders/mxa16a.html
footprint MXA16A_N (TSOP, 16-Leads, Body 5x4.4mm, Pitch 0.65mm, Exposed Pad, IPC Medium Density)
footprint MXA16A_L (TSOP, 16-Leads, Body 5x4.4mm, Pitch 0.65mm, Exposed Pad, IPC High Density)
footprint MXA16A_M (TSOP, 16-Leads, Body 5x4.4mm, Pitch 0.65mm, Exposed Pad, IPC Low Density)
pins: 1 NC, 2 PGND (power), 3 PGND (power), 4 PGND (power), 5 PVIN (power), 6 PVIN (power), 7 PVIN (power), 8 NC, 9 NC, 10 AVIN (power), 11 EN (in), 12 SW (power), 13 SW (power), 14 SS, 15 AGND (power), 16 FB (in), 17 EP (power)

## LM2854MH-1000
designator U?
4A 500 kHz / 1 MHz PowerWise Synchronous SIMPLE SWITCHER® Buck Regulator, 16-pin TSSOP-EP; PartNumber: LM2854MH-1000; Manufacturer: National Semiconductor; PackageTopMarking: NSUZXYTT*LM2854*-1000; PowerWise: Y; CompType: MiscPower; Published: 4-Dec-2008; DatasheetVersion: Nov-2008; PackageVersion: revA, Apr-2003; PackageReference: MXA16A; Publisher: Altium Limited; PackageDescription: Molded TSSOP, Jedec, Exposed Pad, 5.0 x 4.4 x 0.9mm Body,16 Lead, 0.65mm Pitch; RoHS: Y; PinCount: 16; Code_JEDEC: MO-153-ABT; ComponentLink1Description: LM2854 Datasheet; ComponentLink1URL: http://www.national.com/ds/LM/LM2854.pdf; ComponentLink2Description: LM2854 Web Page; ComponentLink2URL: http://www.national.com/pf/LM/LM2854.html; ComponentLink3Description: MXA16A Package Page; ComponentLink3URL: http://www.national.com/packaging/folders/mxa16a.html
footprint MXA16A_N (TSOP, 16-Leads, Body 5x4.4mm, Pitch 0.65mm, Exposed Pad, IPC Medium Density)
footprint MXA16A_L (TSOP, 16-Leads, Body 5x4.4mm, Pitch 0.65mm, Exposed Pad, IPC High Density)
footprint MXA16A_M (TSOP, 16-Leads, Body 5x4.4mm, Pitch 0.65mm, Exposed Pad, IPC Low Density)
pins: 1 NC, 2 PGND (power), 3 PGND (power), 4 PGND (power), 5 PVIN (power), 6 PVIN (power), 7 PVIN (power), 8 NC, 9 NC, 10 AVIN (power), 11 EN (in), 12 SW (power), 13 SW (power), 14 SS, 15 AGND (power), 16 FB (in), 17 EP (power)

## LM2907M
designator U?
Frequency to Voltage Converter, 14-pin Narrow SOIC; PartNumber: LM2907M; Manufacturer: National Semiconductor; PackageTopMarking: NSUZXYTTE#*LM2907M; PowerWise: N; CompType: MiscPower; Published: 4-Dec-2008; DatasheetVersion: Dec-2008; PackageVersion: revJ, Jan-1996; PackageReference: M14A; Publisher: Altium Limited; PackageDescription: Molded Package S.O., .150in Wide, 14 Lead; RoHS: N; PinCount: 14; Code_JEDEC: MS-012AB; Code_IPC: SOIC127P600-14; ComponentLink1Description: LM2907 Datasheet; ComponentLink1URL: http://www.national.com/ds/LM/LM2907.pdf; ComponentLink2Description: LM2907 Web Page; ComponentLink2URL: http://www.national.com/pf/LM/LM2907.html; ComponentLink3Description: M14A Package Page; ComponentLink3URL: http://www.national.com/packaging/folders/m14a.html
footprint M14A_N (SOIC, 14-Leads, Body 8.6x3.9mm, Pitch 1.27mm, IPC Medium Density)
footprint M14A_L (SOIC, 14-Leads, Body 8.6x3.9mm, Pitch 1.27mm, IPC High Density)
footprint M14A_M (SOIC, 14-Leads, Body 8.6x3.9mm, Pitch 1.27mm, IPC Low Density)
pins: 1 TACH+ (in), 2 CP, 3 CP, 4 IN+, 5 EMIT, 6 NC, 7 NC, 8 COL, 9 V+ (power), 10 IN- (in), 11 TACH- (in), 12 GND (power), 13 NC, 14 NC

## LM2907M-8
designator U?
Frequency to Voltage Converter, 8-pin Narrow SOIC; PartNumber: LM2907M-8; Manufacturer: National Semiconductor; PackageTopMarking: NSZXTT*LM29*07M-8; PowerWise: N; CompType: MiscPower; Published: 4-Dec-2008; DatasheetVersion: Dec-2008; PackageVersion: revM, May-2009; PackageReference: M08A; Publisher: Altium Limited; PackageDescription: SOIC Narrow, 4.9 x 3.9 x 1.45mm, 8 Lead, 1.27mm Pitch; Supplier 1: Farnell; Supplier Part Number 1: 7592528; RoHS: N; PinCount: 8; Code_JEDEC: MS-012-AA; Code_IPC: SOIC127P600-8; ComponentLink1Description: LM2907 Datasheet; ComponentLink1URL: http://www.national.com/ds/LM/LM2907.pdf; ComponentLink2Description: LM2907 Web Page; ComponentLink2URL: http://www.national.com/pf/LM/LM2907.html; ComponentLink3Description: M08A Package Page; ComponentLink3URL: http://www.national.com/packaging/folders/m08a.html
footprint M08A_N (SOIC, 8-Leads, Body 4.9x3.9mm, Pitch 1.27mm, IPC Medium Density)
footprint M08A_L (SOIC, 8-Leads, Body 4.9x3.9mm, Pitch 1.27mm, IPC High Density)
footprint M08A_M (SOIC, 8-Leads, Body 4.9x3.9mm, Pitch 1.27mm, IPC Low Density)
pins: 1 TACH+ (in), 2 CP, 3 CP/IN+, 4 EMIT, 5 COL, 6 V+ (power), 7 IN- (in), 8 TACH- (in)

## LM2907M-8/NOPB
designator U?
Frequency to Voltage Converter, 8-pin Narrow SOIC, Pb-Free; PartNumber: LM2907M-8/NOPB; Manufacturer: National Semiconductor; PackageTopMarking: NSZXTT*LM29*07M-8; PowerWise: N; CompType: MiscPower; Published: 1-Mar-2010; DatasheetVersion: Dec-2008; PackageVersion: revM, May-2009; PackageReference: M08A; Publisher: Altium Limited; PackageDescription: SOIC Narrow, 4.9 x 3.9 x 1.45mm, 8 Lead, 1.27mm Pitch; Supplier 1: Digi-Key; Supplier Part Number 1: LM2907M-8-ND; Supplier 2: Farnell; Supplier Part Number 2: 1468986; RoHS: Y; PinCount: 8; Code_JEDEC: MS-012-AA; Code_IPC: SOIC127P600-8; ComponentLink1Description: LM2907 Datasheet; ComponentLink1URL: http://www.national.com/ds/LM/LM2907.pdf; ComponentLink2Description: LM2907 Web Page; ComponentLink2URL: http://www.national.com/pf/LM/LM2907.html; ComponentLink3Description: M08A Package Page; ComponentLink3URL: http://www.national.com/packaging/folders/m08a.html
footprint M08A_N (SOIC, 8-Leads, Body 4.9x3.9mm, Pitch 1.27mm, IPC Medium Density)
footprint M08A_L (SOIC, 8-Leads, Body 4.9x3.9mm, Pitch 1.27mm, IPC High Density)
footprint M08A_M (SOIC, 8-Leads, Body 4.9x3.9mm, Pitch 1.27mm, IPC Low Density)
pins: 1 TACH+ (in), 2 CP, 3 CP/IN+, 4 EMIT, 5 COL, 6 V+ (power), 7 IN- (in), 8 TACH- (in)

## LM2907M/NOPB
designator U?
Frequency to Voltage Converter, 14-pin Narrow SOIC, Pb-Free; PartNumber: LM2907M/NOPB; Manufacturer: National Semiconductor; PackageTopMarking: NSUZXYTTE#*LM2907M; PowerWise: N; CompType: MiscPower; Published: 1-Mar-2010; DatasheetVersion: Dec-2008; PackageVersion: revJ, Jan-1996; PackageReference: M14A; Publisher: Altium Limited; PackageDescription: Molded Package S.O., .150in Wide, 14 Lead; Supplier 1: Digi-Key; Supplier Part Number 1: LM2907M-ND; Supplier 2: Farnell; Supplier Part Number 2: 1559426; RoHS: Y; PinCount: 14; Code_JEDEC: MS-012AB; Code_IPC: SOIC127P600-14; ComponentLink1Description: LM2907 Datasheet; ComponentLink1URL: http://www.national.com/ds/LM/LM2907.pdf; ComponentLink2Description: LM2907 Web Page; ComponentLink2URL: http://www.national.com/pf/LM/LM2907.html; ComponentLink3Description: M14A Package Page; ComponentLink3URL: http://www.national.com/packaging/folders/m14a.html
footprint M14A_N (SOIC, 14-Leads, Body 8.6x3.9mm, Pitch 1.27mm, IPC Medium Density)
footprint M14A_L (SOIC, 14-Leads, Body 8.6x3.9mm, Pitch 1.27mm, IPC High Density)
footprint M14A_M (SOIC, 14-Leads, Body 8.6x3.9mm, Pitch 1.27mm, IPC Low Density)
pins: 1 TACH+ (in), 2 CP, 3 CP, 4 IN+, 5 EMIT, 6 NC, 7 NC, 8 COL, 9 V+ (power), 10 IN- (in), 11 TACH- (in), 12 GND (power), 13 NC, 14 NC

## LM2907MX
designator U?
Frequency to Voltage Converter, 14-pin Narrow SOIC; PartNumber: LM2907MX; Manufacturer: National Semiconductor; PackageTopMarking: NSUZXYTTE#*LM2907M; PowerWise: N; CompType: MiscPower; Published: 1-Mar-2010; DatasheetVersion: Dec-2008; PackageVersion: revJ, Jan-1996; PackageReference: M14A; Publisher: Altium Limited; PackageDescription: Molded Package S.O., .150in Wide, 14 Lead; RoHS: N; PinCount: 14; Code_JEDEC: MS-012AB; Code_IPC: SOIC127P600-14; ComponentLink1Description: LM2907 Datasheet; ComponentLink1URL: http://www.national.com/ds/LM/LM2907.pdf; ComponentLink2Description: LM2907 Web Page; ComponentLink2URL: http://www.national.com/pf/LM/LM2907.html; ComponentLink3Description: M14A Package Page; ComponentLink3URL: http://www.national.com/packaging/folders/m14a.html
footprint M14A_N (SOIC, 14-Leads, Body 8.6x3.9mm, Pitch 1.27mm, IPC Medium Density)
footprint M14A_L (SOIC, 14-Leads, Body 8.6x3.9mm, Pitch 1.27mm, IPC High Density)
footprint M14A_M (SOIC, 14-Leads, Body 8.6x3.9mm, Pitch 1.27mm, IPC Low Density)
pins: 1 TACH+ (in), 2 CP, 3 CP, 4 IN+, 5 EMIT, 6 NC, 7 NC, 8 COL, 9 V+ (power), 10 IN- (in), 11 TACH- (in), 12 GND (power), 13 NC, 14 NC

## LM2907MX-8
designator U?
Frequency to Voltage Converter, 8-pin Narrow SOIC; PartNumber: LM2907MX-8; Manufacturer: National Semiconductor; PackageTopMarking: NSZXTT*LM29*07M-8; PowerWise: N; CompType: MiscPower; Published: 1-Mar-2010; DatasheetVersion: Dec-2008; PackageVersion: revM, May-2009; PackageReference: M08A; Publisher: Altium Limited; PackageDescription: SOIC Narrow, 4.9 x 3.9 x 1.45mm, 8 Lead, 1.27mm Pitch; RoHS: N; PinCount: 8; Code_JEDEC: MS-012-AA; Code_IPC: SOIC127P600-8; ComponentLink1Description: LM2907 Datasheet; ComponentLink1URL: http://www.national.com/ds/LM/LM2907.pdf; ComponentLink2Description: LM2907 Web Page; ComponentLink2URL: http://www.national.com/pf/LM/LM2907.html; ComponentLink3Description: M08A Package Page; ComponentLink3URL: http://www.national.com/packaging/folders/m08a.html
footprint M08A_N (SOIC, 8-Leads, Body 4.9x3.9mm, Pitch 1.27mm, IPC Medium Density)
footprint M08A_L (SOIC, 8-Leads, Body 4.9x3.9mm, Pitch 1.27mm, IPC High Density)
footprint M08A_M (SOIC, 8-Leads, Body 4.9x3.9mm, Pitch 1.27mm, IPC Low Density)
pins: 1 TACH+ (in), 2 CP, 3 CP/IN+, 4 EMIT, 5 COL, 6 V+ (power), 7 IN- (in), 8 TACH- (in)

## LM2907N
designator U?
Frequency to Voltage Converter, 14-pin MDIP; PartNumber: LM2907N; Manufacturer: National Semiconductor; PackageTopMarking: NSUZXYYTTE#*LM2907N; PowerWise: N; CompType: MiscPower; Published: 4-Dec-2008; DatasheetVersion: Dec-2008; PackageVersion: revG, May-2006; PackageReference: N14A; Publisher: Altium Limited; PackageDescription: MDIP, .750 x .250 x.130in, 14 Lead, .100in Pitch; Supplier 1: Farnell; Supplier Part Number 1: 9487760; RoHS: N; PinCount: 14; Code_JEDEC: MS-001-AA; ComponentLink1Description: LM2907 Datasheet; ComponentLink1URL: http://www.national.com/ds/LM/LM2907.pdf; ComponentLink2Description: LM2907 Web Page; ComponentLink2URL: http://www.national.com/pf/LM/LM2907.html; ComponentLink3Description: N14A Package Page; ComponentLink3URL: http://www.national.com/packaging/folders/n14a.html
footprint N14A (DIP, 14-Leads, Row Spacing 7.62mm, Pitch 2.54mm, Body 19.56x6.35mm)
pins: 1 TACH+ (in), 2 CP, 3 CP, 4 IN+, 5 EMIT, 6 NC, 7 NC, 8 COL, 9 V+ (power), 10 IN- (in), 11 TACH- (in), 12 GND (power), 13 NC, 14 NC

## LM2907N-8
designator U?
Frequency to Voltage Converter, 8-pin MDIP; PartNumber: LM2907N-8; Manufacturer: National Semiconductor; PackageTopMarking: NSUZXYTTE#*LM*2907N-8; PowerWise: N; CompType: MiscPower; Published: 4-Dec-2008; DatasheetVersion: Dec-2008; PackageVersion: revG, May-2006; PackageReference: N08E; Publisher: Altium Limited; PackageDescription: MDIP, .365 x .250 x .130in, 8 Lead, .100in Pitch; Supplier 1: Farnell; Supplier Part Number 1: 9487778; RoHS: N; PinCount: 8; Code_JEDEC: MS-001-BA; ComponentLink1Description: LM2907 Datasheet; ComponentLink1URL: http://www.national.com/ds/LM/LM2907.pdf; ComponentLink2Description: LM2907 Web Page; ComponentLink2URL: http://www.national.com/pf/LM/LM2907.html; ComponentLink3Description: N08E Package Page; ComponentLink3URL: http://www.national.com/packaging/folders/n08e.html
footprint N08E (DIP, 8-Leads, Row Spacing 7.62mm, Pitch 2.54mm, Body 9.91x6.35mm)
pins: 1 TACH+ (in), 2 CP, 3 CP/IN+, 4 EMIT, 5 COL, 6 V+ (power), 7 IN- (in), 8 TACH- (in)